# Altium footprint library Sensors.PcbLib: 2 footprints
Each footprint in its own frame and in the unit in brackets; x right, y up, seen from the top. Pads: shape width x height; smd on the part's side, far side on the other; paste and mask are expansions set on the pad; w line width, h text height; cw(c..) or ccw(c..) is an arc to the next point about the centre after c.
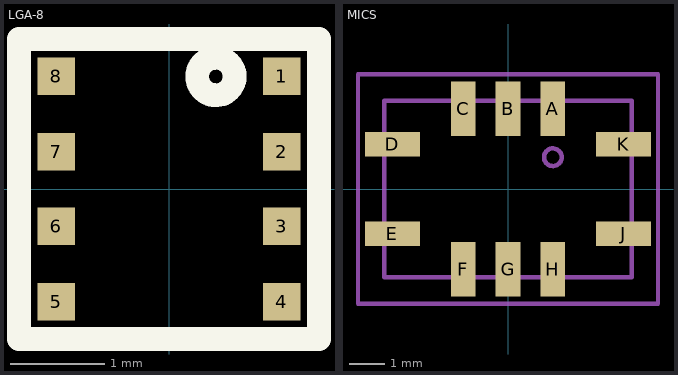
[diagram p0: the footprints below, top view; thin cyan lines are the x and y axes]

## LGA-8 [mm]
height 0.93
pads (8):
  rect 0.4x0.4 smd mask+0.1: 1(1.2,1.2) 2(1.2,0.4) 3(1.2,-0.4) 4(1.2,-1.2) 5(-1.2,-1.2) 6(-1.2,-0.4) 7(-1.2,0.4) 8(-1.2,1.2)
Top Overlay:
  circle w0.254: c0.5,1.2 r0.2
  lines w0.254: -1.6,-1.6 -1.6,1.6 1.6,1.6 1.6,-1.6 -1.6,-1.6

## MICS [mm]
height 1.5
pads (10):
  rect 0.7x1.55 smd: A(1.27,2.275) B(0,2.275) C(-1.27,2.275) F(-1.27,-2.275) G(0,-2.275) H(1.27,-2.275)
  rect 1.55x0.7 smd: D(-3.275,1.27) E(-3.275,-1.27) J(3.275,-1.27) K(3.275,1.27)
Mechanical 8:
  lines w0.127: -3.5,-2.5 -3.5,2.5 3.5,2.5 3.5,-2.5 -3.5,-2.5
Mechanical 22:
  circle w0.127: c1.27,0.9 r0.25
  lines w0.127: -3.5,-2 -3.5,-2.5 -2,-2.5 ; -3.5,-0.5 -3.5,0.5 ; -3.5,2 -3.5,2.5 -2,2.5 ; 2,-2.5 3.5,-2.5 3.5,-2 ; 2,2.5 3.5,2.5 3.5,2 ; 3.5,-0.5 3.5,0.5
Mechanical 30:
  lines w0.127: -4.25,-3.25 -4.25,3.25 4.25,3.25 4.25,-3.25 -4.25,-3.25